# EAGLE library part XTX-X2 (library etx-board)
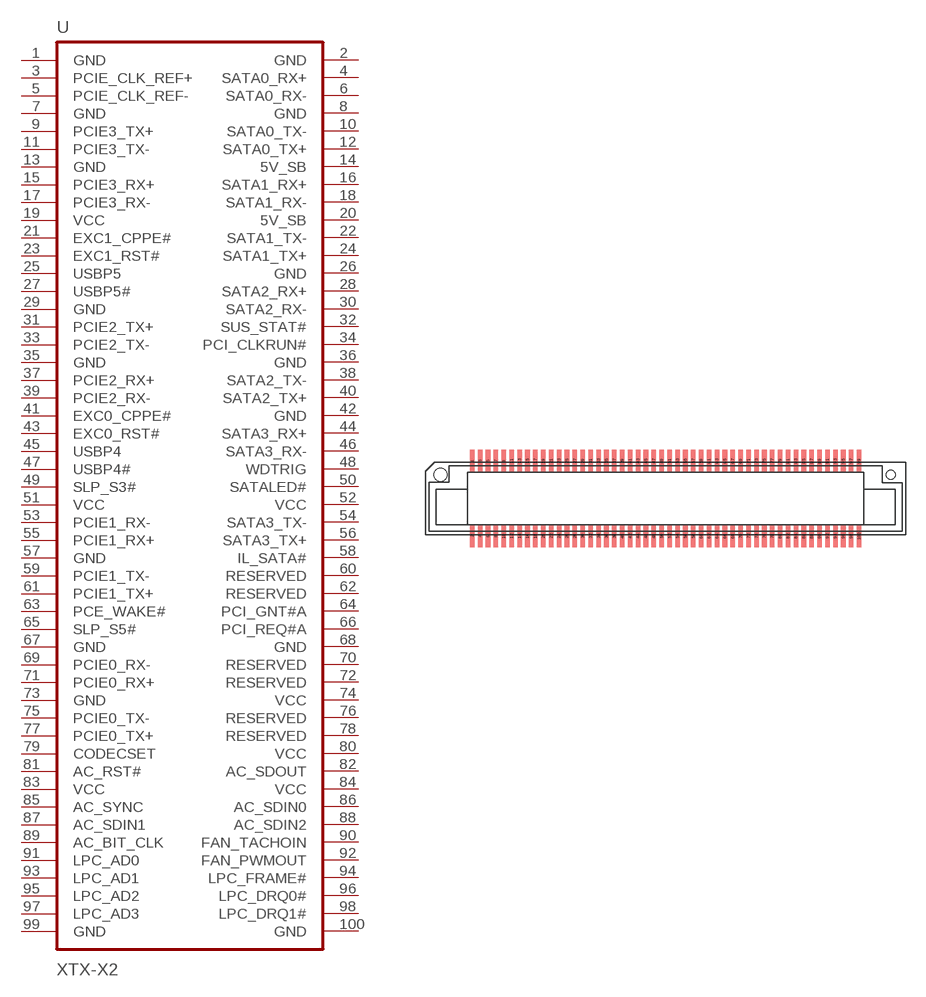
[diagram p5: symbol with the pads of FX8-100S-SV; footprint FX8-100S-SV]

Designator prefix -

## XTX-X2  [FX8-100S-SV]
1  GND  pwr
2  GND  pwr
3  PCIE_CLK_REF+
4  SATA0_RX+
5  PCIE_CLK_REF-
6  SATA0_RX-
7  GND  pwr
8  GND  pwr
9  PCIE3_TX+
10  SATA0_TX-
11  PCIE3_TX-
12  SATA0_TX+
13  GND  pwr
14  5V_SB  pwr
15  PCIE3_RX+
16  SATA1_RX+
17  PCIE3_RX-
18  SATA1_RX-
19  VCC  pwr
20  5V_SB  pwr
21  EXC1_CPPE#
22  SATA1_TX-
23  EXC1_RST#
24  SATA1_TX+
25  USBP5
26  GND  pwr
27  USBP5#
28  SATA2_RX+
29  GND  pwr
30  SATA2_RX-
31  PCIE2_TX+
32  SUS_STAT#
33  PCIE2_TX-
34  PCI_CLKRUN#
35  GND  pwr
36  GND  pwr
37  PCIE2_RX+
38  SATA2_TX-
39  PCIE2_RX-
40  SATA2_TX+
41  EXC0_CPPE#
42  GND  pwr
43  EXC0_RST#
44  SATA3_RX+
45  USBP4
46  SATA3_RX-
47  USBP4#
48  WDTRIG
49  SLP_S3#
50  SATALED#
51  VCC  pwr
52  VCC  pwr
53  PCIE1_RX-
54  SATA3_TX-
55  PCIE1_RX+
56  SATA3_TX+
57  GND  pwr
58  IL_SATA#
59  PCIE1_TX-
60  RESERVED
61  PCIE1_TX+
62  RESERVED
63  PCE_WAKE#
64  PCI_GNT#A
65  SLP_S5#
66  PCI_REQ#A
67  GND  pwr
68  GND  pwr
69  PCIE0_RX-
70  RESERVED
71  PCIE0_RX+
72  RESERVED
73  GND  pwr
74  VCC  pwr
75  PCIE0_TX-
76  RESERVED
77  PCIE0_TX+
78  RESERVED
79  CODECSET
80  VCC  pwr
81  AC_RST#
82  AC_SDOUT
83  VCC  pwr
84  VCC  pwr
85  AC_SYNC
86  AC_SDIN0
87  AC_SDIN1
88  AC_SDIN2
89  AC_BIT_CLK
90  FAN_TACHOIN
91  LPC_AD0
92  FAN_PWMOUT
93  LPC_AD1
94  LPC_FRAME#
95  LPC_AD2
96  LPC_DRQ0#
97  LPC_AD3
98  LPC_DRQ1#
99  GND  pwr
100  GND  pwr

## Footprint FX8-100S-SV (pad centres in mm)
HIROSE - ETX Board Connector 100 Pos. Source: www.hirose.co.jp/cataloge_hp/e57800016.pdf www.kontron.com/techlib/whitepapers/etx_spec.pdf
smd 0.35 x 1.7: 1 -14.7,2.85; 2 -14.7,-2.85; 3 -14.1,2.85; 4 -14.1,-2.85; 5 -13.5,2.85; 6 -13.5,-2.85; 7 -12.9,2.85; 8 -12.9,-2.85; 9 -12.3,2.85; 10 -12.3,-2.85; 11 -11.7,2.85; 12 -11.7,-2.85; 13 -11.1,2.85; 14 -11.1,-2.85; 15 -10.5,2.85; 16 -10.5,-2.85; 17 -9.9,2.85; 18 -9.9,-2.85; 19 -9.3,2.85; 20 -9.3,-2.85; 21 -8.7,2.85; 22 -8.7,-2.85; 23 -8.1,2.85; 24 -8.1,-2.85; 25 -7.5,2.85; 26 -7.5,-2.85; 27 -6.9,2.85; 28 -6.9,-2.85; 29 -6.3,2.85; 30 -6.3,-2.85; 31 -5.7,2.85; 32 -5.7,-2.85; 33 -5.1,2.85; 34 -5.1,-2.85; 35 -4.5,2.85; 36 -4.5,-2.85; 37 -3.9,2.85; 38 -3.9,-2.85; 39 -3.3,2.85; 40 -3.3,-2.85; 41 -2.7,2.85; 42 -2.7,-2.85; 43 -2.1,2.85; 44 -2.1,-2.85; 45 -1.5,2.85; 46 -1.5,-2.85; 47 -0.9,2.85; 48 -0.9,-2.85; 49 -0.3,2.85; 50 -0.3,-2.85; 51 0.3,2.85; 52 0.3,-2.85; 53 0.9,2.85; 54 0.9,-2.85; 55 1.5,2.85; 56 1.5,-2.85; 57 2.1,2.85; 58 2.1,-2.85; 59 2.7,2.85; 60 2.7,-2.85; 61 3.3,2.85; 62 3.3,-2.85; 63 3.9,2.85; 64 3.9,-2.85; 65 4.5,2.85; 66 4.5,-2.85; 67 5.1,2.85; 68 5.1,-2.85; 69 5.7,2.85; 70 5.7,-2.85; 71 6.3,2.85; 72 6.3,-2.85; 73 6.9,2.85; 74 6.9,-2.85; 75 7.5,2.85; 76 7.5,-2.85; 77 8.1,2.85; 78 8.1,-2.85; 79 8.7,2.85; 80 8.7,-2.85; 81 9.3,2.85; 82 9.3,-2.85; 83 9.9,2.85; 84 9.9,-2.85; 85 10.5,2.85; 86 10.5,-2.85; 87 11.1,2.85; 88 11.1,-2.85; 89 11.7,2.85; 90 11.7,-2.85; 91 12.3,2.85; 92 12.3,-2.85; 93 12.9,2.85; 94 12.9,-2.85; 95 13.5,2.85; 96 13.5,-2.85; 97 14.1,2.85; 98 14.1,-2.85; 99 14.7,2.85; 100 14.7,-2.85
hole 1 at -17.1,1.8
hole 0.7 at 17.1,1.8